# EAGLE library part TDA8593J (library Audio-Power-amplifier)
I2C-bus controlled 4 ´ 45 W power amplifier
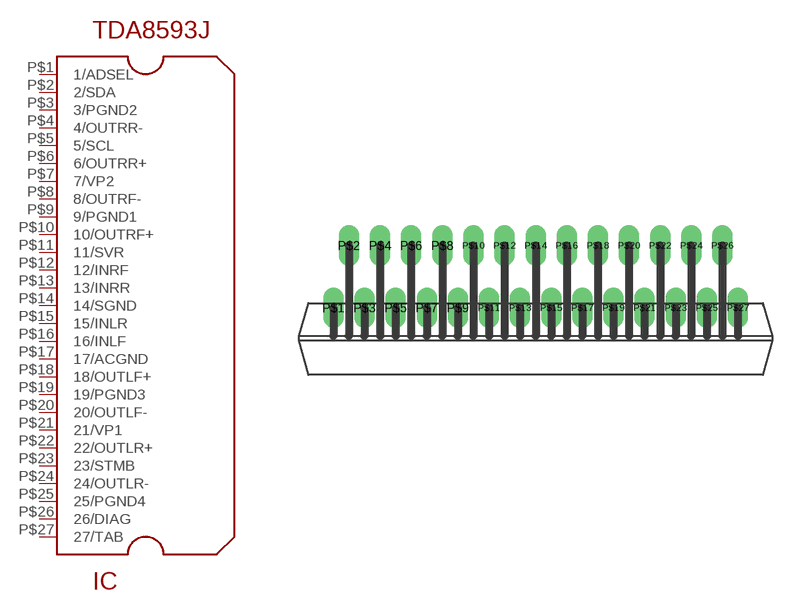
[diagram p41: symbol with the pads of SOT767-1; footprint SOT767-1]

Designator prefix IC

## TDA8593J  [SOT767-1]
P$1  1/ADSEL
P$2  2/SDA
P$3  3/PGND2  pwr
P$4  4/OUTRR-  out
P$5  5/SCL
P$6  6/OUTRR+  out
P$7  7/VP2  pwr
P$8  8/OUTRF-  out
P$9  9/PGND1  pwr
P$10  10/OUTRF+  out
P$11  11/SVR
P$12  12/INRF  in
P$13  13/INRR  in
P$14  14/SGND  pwr
P$15  15/INLR  in
P$16  16/INLF  in
P$17  17/ACGND  pwr
P$18  18/OUTLF+  out
P$19  19/PGND3  pwr
P$20  20/OUTLF-  out
P$21  21/VP1  pwr
P$22  22/OUTLR+  out
P$23  23/STMB
P$24  24/OUTLR-  out
P$25  25/PGND4  pwr
P$26  26/DIAG
P$27  27/TAB

## Footprint SOT767-1 (pad centres in mm)
drill 0.8 long: P$1 -13,0; P$2 -12,4; P$3 -11,0; P$4 -10,4; P$5 -9,0; P$6 -8,4; P$7 -7,0; P$8 -6,4; P$9 -5,0; P$10 -4,4; P$11 -3,0; P$12 -2,4; P$13 -1,0; P$14 0,4; P$15 1,0; P$16 2,4; P$17 3,0; P$18 4,4; P$19 5,0; P$20 6,4; P$21 7,0; P$22 8,4; P$23 9,0; P$24 10,4; P$25 11,0; P$26 12,4; P$27 13,0